# Altium footprint library ESP32-WROOM-32_8MB_.PcbLib: 1 footprints
Each footprint in its own frame and in the unit in brackets; x right, y up, seen from the top. Pads: shape width x height; smd on the part's side, far side on the other; paste and mask are expansions set on the pad; w line width, h text height; cw(c..) or ccw(c..) is an arc to the next point about the centre after c.
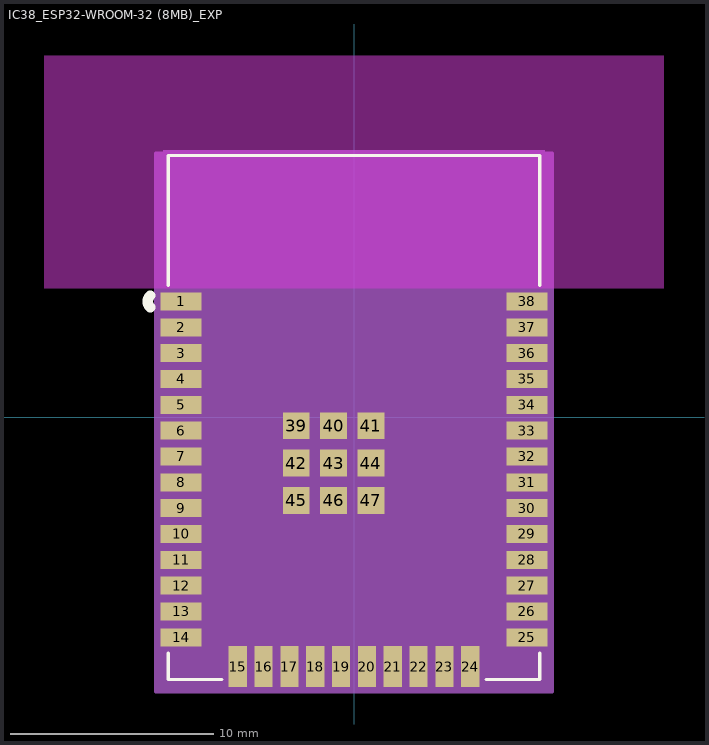
[diagram p0: the footprint, top view; thin cyan lines are the x and y axes]

## IC38_ESP32-WROOM-32 (8MB)_EXP [mil]
pads (47):
  rect 79x35 smd paste+0 mask+0: 1(-334.65,224.56) 2(-334.65,174.56) 3(-334.65,124.56) 4(-334.65,74.56) 5(-334.65,24.55) 6(-334.65,-25.45) 7(-334.65,-75.44) 8(-334.65,-125.44) 9(-334.65,-175.44) 10(-334.65,-225.44) 11(-334.65,-275.44) 12(-334.65,-325.44) 13(-334.65,-375.44) 14(-334.65,-425.44) 25(334.65,-425.44) 26(334.65,-375.44) 27(334.65,-325.44) 28(334.65,-275.44) 29(334.65,-225.44) 30(334.65,-175.44) 31(334.65,-125.44) 32(334.65,-75.44) 33(334.65,-25.45) 34(334.65,24.55) 35(334.65,74.56) 36(334.65,124.56) 37(334.65,174.56) 38(334.65,224.56)
  rect 35x79 smd: 15(-225,-482.19) 16(-175,-482.19) 17(-125,-482.19) 18(-75,-482.19) 19(-25,-482.19) 20(25,-482.19) 21(75,-482.19) 22(125,-482.19) 23(175,-482.19) 24(225,-482.19)
  rect 52x52 smd: 39(-111.78,-15.96) 40(-39.54,-15.96) 41(32.71,-15.96) 42(-111.78,-88.2) 43(-39.54,-88.2) 44(32.71,-88.2) 45(-111.78,-160.44) 46(-39.54,-160.44) 47(32.71,-160.44)
Top Overlay:
  lines w6: -359.5,-456.05 -359.5,-507 -255.6,-507 ; -359.5,255.16 -359.5,507 359.5,507 359.5,255.16 ; 255.6,-507 359.5,-507 359.5,-456.05
  lines w20: -394.25,213.15 cw(c-384.5,224.56) -394.25,235.96
Bottom Overlay:
  circle w20: c-384.5,224.56 r15
Keep-Out Layer:
  region: -600,700 600,700 600,250 -600,250
Mechanical 5:
  region: -369.5,517 369.5,517 369.5,-517 -369.5,-517
Mechanical 13:
  circle w20: c-334.65,299.56 r15
  lines w1: -354.5,-502 354.5,-502 354.5,502 -354.5,502 -354.5,-502
Mechanical 15:
  region: 384.15,512 -384.15,512 -384.15,-531.68 384.15,-531.68
  lines w6: -384.15,-531.68 -384.15,512 384.15,512 384.15,-531.68 -384.15,-531.68
3D body "ESP32-WROOM-32D--3DModel-STEP-56544.STEP": height 127.95, standoff 0, extent -354.33,-481.97 354.33,521.97
3D body: height 10, standoff 0, extent 0,0 10,10